# EAGLE library part M7101 (library dec-m)
DW8E Control
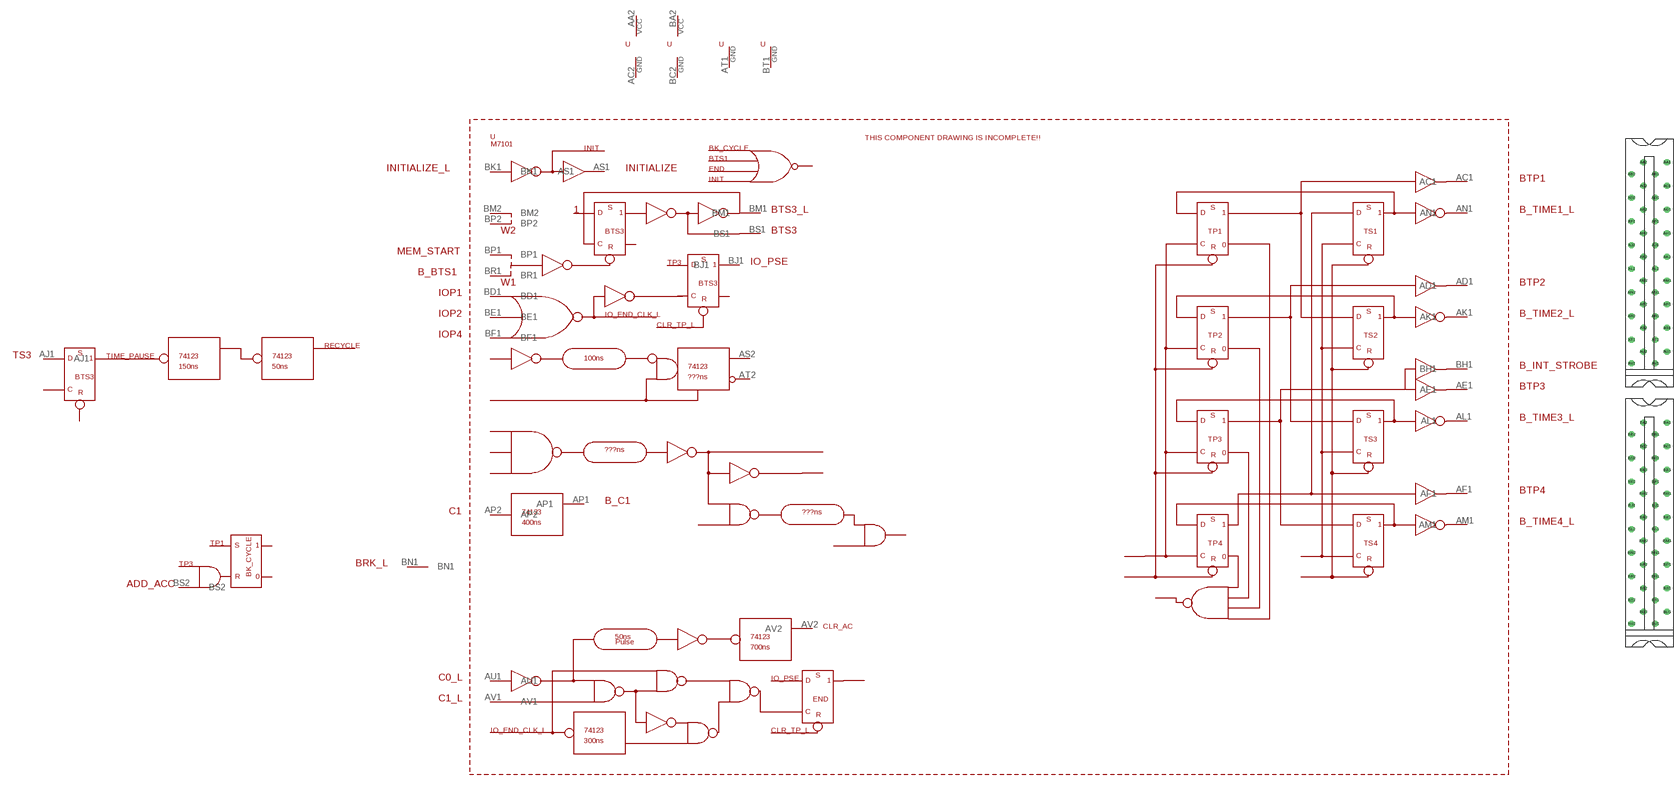
[diagram p108: symbol with the pads of H807-2; footprint H807-2]

Designator prefix -; gates G$1=M7101 AT1=T1GND BT1=T1GND PWRA=POWER PWRB=POWER

## M7101  [H807-2]
AA2  PWRA:VCC  pwr
AC1  G$1:AC1  oc
AC2  PWRA:GND  pwr
AD1  G$1:AD1  oc
AE1  G$1:AE1  oc
AF1  G$1:AF1  oc
AJ1  G$1:AJ1  in
AK1  G$1:AK1  oc
AL1  G$1:AL1  oc
AM1  G$1:AM1  oc
AN1  G$1:AN1  oc
AP1  G$1:AP1  out
AP2  G$1:AP2  in
AS1  G$1:AS1  out
AS2  G$1:AS2  out
AT1  AT1:GND  pwr
AT2  G$1:AT2  out
AU1  G$1:AU1  in
AV1  G$1:AV1  in
AV2  G$1:AV2  out
BA2  PWRB:VCC  pwr
BC2  PWRB:GND  pwr
BD1  G$1:BD1  in
BE1  G$1:BE1  in
BF1  G$1:BF1  in
BH1  G$1:BH1  oc
BJ1  G$1:BJ1  out
BK1  G$1:BK1  in
BM1  G$1:BM1  out
BM2  G$1:BM2  in
BN1  G$1:BN1  in
BP1  G$1:BP1  in
BP2  G$1:BP2  in
BR1  G$1:BR1  in
BS1  G$1:BS1  out
BS2  G$1:BS2  in
BT1  BT1:GND  pwr

## Footprint H807-2 (pad centres in mm)
Two-wide Female Edge Connector
drill 1.092 octagon: AA1 4.763,60.325; AA2 -1.587,60.325; AB1 1.587,57.15; AB2 -4.763,57.15; AC1 4.763,53.975; AC2 -1.587,53.975; AD1 1.587,50.8; AD2 -4.763,50.8; AE1 4.763,47.625; AE2 -1.587,47.625; AF1 1.587,44.45; AF2 -4.763,44.45; AH1 4.763,41.275; AH2 -1.587,41.275; AJ1 1.587,38.1; AJ2 -4.763,38.1; AK1 4.763,34.925; AK2 -1.587,34.925; AL1 1.587,31.75; AL2 -4.763,31.75; AM1 4.763,28.575; AM2 -1.587,28.575; AN1 1.587,25.4; AN2 -4.763,25.4; AP1 4.763,22.225; AP2 -1.587,22.225; AR1 1.587,19.05; AR2 -4.763,19.05; AS1 4.763,15.875; AS2 -1.587,15.875; AT1 1.587,12.7; AT2 -4.763,12.7; AU1 4.763,9.525; AU2 -1.587,9.525; AV1 1.587,6.35; AV2 -4.763,6.35; BA1 4.763,-9.525; BA2 -1.587,-9.525; BB1 1.587,-12.7; BB2 -4.763,-12.7; BC1 4.763,-15.875; BC2 -1.587,-15.875; BD1 1.587,-19.05; BD2 -4.763,-19.05; BE1 4.763,-22.225; BE2 -1.587,-22.225; BF1 1.587,-25.4; BF2 -4.763,-25.4; BH1 4.763,-28.575; BH2 -1.587,-28.575; BJ1 1.587,-31.75; BJ2 -4.763,-31.75; BK1 4.763,-34.925; BK2 -1.587,-34.925; BL1 1.587,-38.1; BL2 -4.763,-38.1; BM1 4.763,-41.275; BM2 -1.587,-41.275; BN1 1.587,-44.45; BN2 -4.763,-44.45; BP1 4.763,-47.625; BP2 -1.587,-47.625; BR1 1.587,-50.8; BR2 -4.763,-50.8; BS1 4.763,-53.975; BS2 -1.587,-53.975; BT1 1.587,-57.15; BT2 -4.763,-57.15; BU1 4.763,-60.325; BU2 -1.587,-60.325; BV1 1.587,-63.5; BV2 -4.763,-63.5